# Altium footprint library DIODO_SMD.PcbLib: 2 footprints
Each footprint in its own frame and in the unit in brackets; x right, y up, seen from the top. Pads: shape width x height; smd on the part's side, far side on the other; paste and mask are expansions set on the pad; w line width, h text height; cw(c..) or ccw(c..) is an arc to the next point about the centre after c.
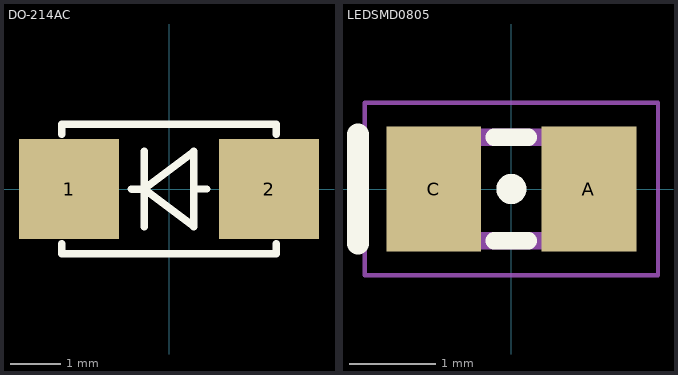
[diagram p0: the footprints below, top view; thin cyan lines are the x and y axes]

## DO-214AC [mm] "CASE 403D - SMA"
height 2.1
pads (2):
  rect 2x2 smd: 1(-2,0) 2(2,0)
Top Overlay:
  lines w0.15: -2.15,-1.1 -2.15,-1.3 2.15,-1.3 2.15,-1.1 ; -2.15,1.1 -2.15,1.3 2.15,1.3 2.15,1.1 ; -0.5,-0.75 -0.5,0.75 ; 0.5,0 0.75,0 ; -0.75,0 -0.75,0 ; -0.75,0 -0.5,0 ; -0.5,0 -0.5,0 ; -0.5,0 0.5,-0.75 0.5,0.75 -0.5,0 ; -0.5,0 -0.5,0
3D body "User Library-DO-214AC SMA.STEP": height 2.35, standoff -0.05, extent -2.6,-1.325 2.6,1.275

## LEDSMD0805 [mm]
pads (2):
  rect 1.1x1.45 smd: A(0.9,0) C(-0.9,0)
Top Overlay:
  circle w0.2: c0,0 r0.075
  lines w0.2: -0.2,-0.6 0.2,-0.6 ; -0.2,0.6 0.2,0.6
  lines w0.25: -1.778,-0.635 -1.778,0.635
Mechanical 4:
  region: -1,0.6 -0.5,0.6 -0.5,-0.6 -1,-0.6
  region: 0.5,0.6 1,0.6 1,-0.6 0.5,-0.6
  region: -1,0.6 -0.5,0.6 -0.5,-0.6 -1,-0.6
  region: 0.5,0.6 1,0.6 1,-0.6 0.5,-0.6
  lines w0.2: -1,-0.6 1,-0.6 ; -1,-0.6 -1,0.6 ; -1,-0.6 1,-0.6 ; -1,-0.6 -1,0.6 ; -1,0.6 1,0.6 ; -1,0.6 1,0.6 ; 1,-0.6 1,0.6 ; 1,-0.6 1,0.6
Mechanical 16:
  lines w0.05: -1.7,-1 1.7,-1 1.7,1 -1.7,1 -1.7,-1
3D body "ALSRobot-LED0805(Y).STEP": height 1.1, standoff 0, extent -1.01,-0.625 1.01,0.625